# EAGLE library part APDS9950 (library main)
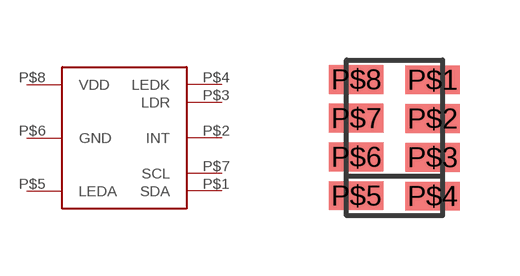
[diagram p2: symbol with the pads of APDS9950; footprint APDS9950]

Designator prefix -

## APDS9950  [APDS9950]
P$1  SDA
P$2  INT
P$3  LDR
P$4  LEDK
P$5  LEDA
P$6  GND
P$7  SCL
P$8  VDD

## Footprint APDS9950 (pad centres in mm)
smd 1.362 x 0.72: P$1 0.954,1.4; P$2 0.954,0.43; P$3 0.954,-0.54; P$4 0.954,-1.51; P$5 -0.954,-1.5; P$6 -0.954,-0.53; P$7 -0.954,0.44; P$8 -0.954,1.41